# Altium schematic symbol library TRIAC.SchLib: 1 symbol
Pins are listed as number, name and electrical type; pins without a type are passive.

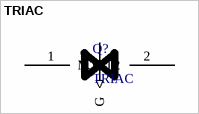
[diagram p0: symbol TRIAC]

## TRIAC
designator Q?
Triac symbol
pins: 1 MT1, 2 MT2, 3 G (in)